# Altium footprint library Tigershark 3D R1.8.PcbLib: 47 footprints (part 2 of 3)
Each footprint in its own frame and in the unit in brackets; x right, y up, seen from the top. Pads: shape width x height; smd on the part's side, far side on the other; paste and mask are expansions set on the pad; w line width, h text height; cw(c..) or ccw(c..) is an arc to the next point about the centre after c.
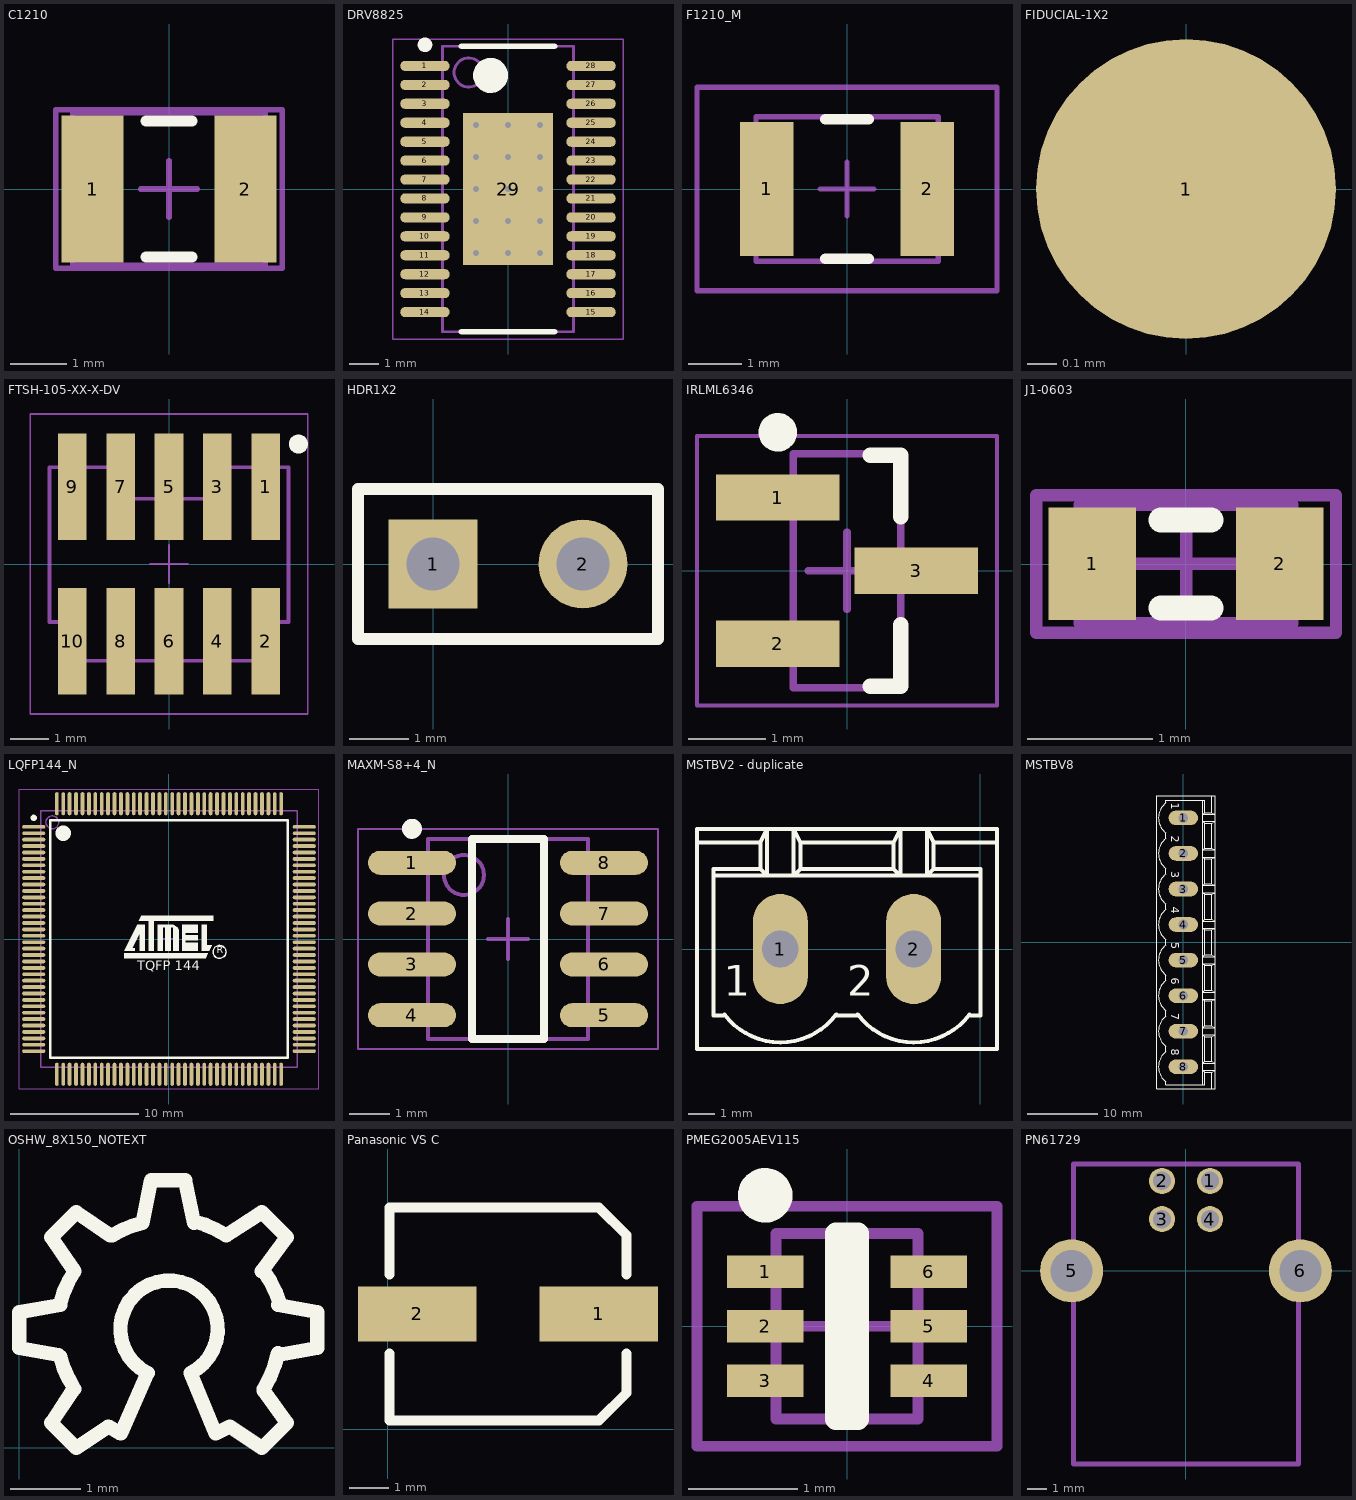
[diagram p1: the footprints below, top view; thin cyan lines are the x and y axes]

## C1210 [mm]
pads (2):
  rect 1.1x2.6 smd: 1(-1.35,0) 2(1.35,0)
Top Overlay:
  lines w0.2: -0.4,-1.2 0.4,-1.2 ; -0.4,1.2 0.4,1.2
Mechanical 13:
  lines w0.1: -1.7,-1.35 1.7,-1.35 1.7,1.35 -1.7,1.35 -1.7,-1.35
Mechanical 15:
  lines w0.1: -0.5,0 0.5,0 ; 0,-0.5 0,0.5 ; -2,-1.4 2,-1.4 2,1.4 -2,1.4 -2,-1.4
3D body: height 1.3, standoff 0, extent -1.7,-1.35 1.7,1.35

## DRV8825 [mm]
pads (29):
  oval 1.7x0.35 smd: 1(-2.85,4.225) 2(-2.85,3.575) 3(-2.85,2.925) 4(-2.85,2.275) 5(-2.85,1.625) 6(-2.85,0.975) 7(-2.85,0.325) 8(-2.85,-0.325) 9(-2.85,-0.975) 10(-2.85,-1.625) 11(-2.85,-2.275) 12(-2.85,-2.925) 13(-2.85,-3.575) 14(-2.85,-4.225) 15(2.85,-4.225) 16(2.85,-3.575) 17(2.85,-2.925) 18(2.85,-2.275) 19(2.85,-1.625) 20(2.85,-0.975) 21(2.85,-0.325) 22(2.85,0.325) 23(2.85,0.975) 24(2.85,1.625) 25(2.85,2.275) 26(2.85,2.925) 27(2.85,3.575) 28(2.85,4.225)
  rect 3.1x5.22 smd: 29(0,0)
via -1.1,2.2 diameter 0.5 hole 0.2
via 0,2.2 diameter 0.5 hole 0.2
via 1.1,2.2 diameter 0.5 hole 0.2
via -1.1,1.1 diameter 0.5 hole 0.2
via 0,1.1 diameter 0.5 hole 0.2
via 1.1,1.1 diameter 0.5 hole 0.2
via -1.1,0 diameter 0.5 hole 0.2
via 0,0 diameter 0.5 hole 0.2
via 1.1,0 diameter 0.5 hole 0.2
via -1.1,-1.1 diameter 0.5 hole 0.2
via 0,-1.1 diameter 0.5 hole 0.2
via 1.1,-1.1 diameter 0.5 hole 0.2
via -1.1,-2.2 diameter 0.5 hole 0.2
via 0,-2.2 diameter 0.5 hole 0.2
via 1.1,-2.2 diameter 0.5 hole 0.2
Top Overlay:
  circle w0.25: c-2.85,4.95 r0.125
  circle w0.6: c-0.6,3.9 r0.3
  lines w0.2: -1.6,-4.9 1.6,-4.9 ; -1.6,4.9 1.6,4.9
Mechanical 13:
  circle w0.1: c-1.35,4 r0.5
  lines w0.1: -2.25,-4.9 -2.25,4.9 2.25,4.9 2.25,-4.9 -2.25,-4.9
Mechanical 15:
  lines w0.05: -3.95,-5.15 -3.95,5.15 3.95,5.15 3.95,-5.15 -3.95,-5.15
  lines w0.1: -0.5,0 0.5,0 ; 0,-0.5 0,0.5
3D body: height 1.2, standoff 0.1, extent -2.25,-4.9 2.25,4.9

## F1210_M [mm]
pads (2):
  rect 1x2.5 smd: 1(-1.5,0) 2(1.5,0)
Top Overlay:
  lines w0.2: -0.4,-1.3 0.4,-1.3 ; -0.4,1.3 0.4,1.3
Mechanical 13:
  lines w0.1: -1.7,-1.35 1.7,-1.35 1.7,1.35 -1.7,1.35 -1.7,-1.35
Mechanical 15:
  lines w0.1: -0.5,0 0.5,0 ; 0,-0.5 0,0.5 ; -2.8,-1.9 2.8,-1.9 2.8,1.9 -2.8,1.9 -2.8,-1.9
3D body: height 0.85, standoff 0, extent -1.7,-1.35 1.7,1.4

## FIDUCIAL-1X2 [mil]
pads (1):
  rrect100% 40x40 smd paste-3897.64 mask+20: 1(0,0)
3D body: height 0.79, standoff 0, extent -19.84,-19.96 20.01,19.97
3D body: height 0.39, standoff 0, extent -39.68,-39.91 40.01,39.93

## FTSH-105-XX-X-DV [mm]
pads (10):
  rect 0.75x2.8 smd mask+0: 1(2.54,2.03) 2(2.54,-2.03) 3(1.27,2.03) 4(1.27,-2.03) 5(0,2.03) 6(0,-2.03) 7(-1.27,2.03) 8(-1.27,-2.03) 9(-2.54,2.03) 10(-2.54,-2.03)
Top Overlay:
  circle w0.25: c3.4,3.15 r0.125
Mechanical 12:
  lines w0.001: -3.137,-1.524 -2.54,-1.524 -2.54,-2.54 2.54,-2.54 2.54,-1.524 3.137,-1.524 3.137,2.54 1.079,2.54 1.079,1.714 -1.079,1.714 -1.079,2.54 -3.137,2.54 -3.137,-1.524
Mechanical 13:
  lines w0.1: -3.137,-1.524 -2.54,-1.524 -2.54,-2.54 2.54,-2.54 2.54,-1.524 3.137,-1.524 3.137,2.54 1.079,2.54 1.079,1.714 -1.079,1.714 -1.079,2.54 -3.137,2.54 -3.137,-1.524
Mechanical 15:
  lines w0.05: -0.5,0 0.5,0 ; 0,-0.5 0,0.5 ; -3.645,-3.937 -3.645,3.937 3.645,3.937 3.645,-3.937 -3.645,-3.937

## HDR1X2 [mm]
pads (2):
  rect 1.5x1.5 hole 0.9: 1(0,0)
  round 1.5 hole 0.9: 2(2.54,0)
Top Overlay:
  lines w0.2: -1.27,-1.27 -1.27,1.27 3.81,1.27 3.81,-1.27 -1.27,-1.27

## IRLML6346 [mm]
pads (3):
  rect 1.6x0.6 smd: 1(-0.9,0.95) 2(-0.9,-0.95) 3(0.9,0)
Top Overlay:
  circle w0.25: c-0.9,1.8 r0.125
  lines w0.2: 0.3,-1.5 0.7,-1.5 0.7,-0.7 ; 0.3,1.5 0.7,1.5 0.7,0.7
Mechanical 13:
  lines w0.1: -0.7,-1.52 0.7,-1.52 0.7,1.52 -0.7,1.52 -0.7,-1.52
Mechanical 15:
  lines w0.05: -1.95,-1.75 1.95,-1.75 1.95,1.75 -1.95,1.75 -1.95,-1.75
  lines w0.1: -0.5,0 0.5,0 ; 0,-0.5 0,0.5
3D body: height 1.12, standoff 0.1, extent -0.7,-1.52 0.7,1.52

## J1-0603 [mm]
pads (2):
  rect 0.7x0.9 smd: 1(-0.75,0) 2(0.75,0)
Top Overlay:
  lines w0.2: -0.2,-0.35 0.2,-0.35 ; -0.2,0.35 0.2,0.35
Mechanical 13:
  lines w0.1: -0.85,-0.475 -0.85,0.475 0.85,0.475 0.85,-0.475 -0.85,-0.475
Mechanical 15:
  lines w0.1: -0.475,0 0.475,0 ; 0,-0.475 0,0.475 ; -1.2,-0.55 -1.2,0.55 1.2,0.55 1.2,-0.55 -1.2,-0.55
3D body: height 0.9, standoff 0, extent -0.85,-0.475 0.85,0.475

## LQFP144_N [mm]
pads (144):
  oval 1.8x0.3 smd: 1(-10.55,8.75) 2(-10.55,8.25) 3(-10.55,7.75) 4(-10.55,7.25) 5(-10.55,6.75) 6(-10.55,6.25) 7(-10.55,5.75) 8(-10.55,5.25) 9(-10.55,4.75) 10(-10.55,4.25) 11(-10.55,3.75) 12(-10.55,3.25) 13(-10.55,2.75) 14(-10.55,2.25) 15(-10.55,1.75) 16(-10.55,1.25) 17(-10.55,0.75) 18(-10.55,0.25) 19(-10.55,-0.25) 20(-10.55,-0.75) 21(-10.55,-1.25) 22(-10.55,-1.75) 23(-10.55,-2.25) 24(-10.55,-2.75) 25(-10.55,-3.25) 26(-10.55,-3.75) 27(-10.55,-4.25) 28(-10.55,-4.75) 29(-10.55,-5.25) 30(-10.55,-5.75) 31(-10.55,-6.25) 32(-10.55,-6.75) 33(-10.55,-7.25) 34(-10.55,-7.75) 35(-10.55,-8.25) 36(-10.55,-8.75) 73(10.55,-8.75) 74(10.55,-8.25) 75(10.55,-7.75) 76(10.55,-7.25) 77(10.55,-6.75) 78(10.55,-6.25) 79(10.55,-5.75) 80(10.55,-5.25) 81(10.55,-4.75) 82(10.55,-4.25) 83(10.55,-3.75) 84(10.55,-3.25) 85(10.55,-2.75) 86(10.55,-2.25) 87(10.55,-1.75) 88(10.55,-1.25) 89(10.55,-0.75) 90(10.55,-0.25) 91(10.55,0.25) 92(10.55,0.75) 93(10.55,1.25) 94(10.55,1.75) 95(10.55,2.25) 96(10.55,2.75) 97(10.55,3.25) 98(10.55,3.75) 99(10.55,4.25) 100(10.55,4.75) 101(10.55,5.25) 102(10.55,5.75) 103(10.55,6.25) 104(10.55,6.75) 105(10.55,7.25) 106(10.55,7.75) 107(10.55,8.25) 108(10.55,8.75)
  oval 0.3x1.8 smd: 37(-8.75,-10.55) 38(-8.25,-10.55) 39(-7.75,-10.55) 40(-7.25,-10.55) 41(-6.75,-10.55) 42(-6.25,-10.55) 43(-5.75,-10.55) 44(-5.25,-10.55) 45(-4.75,-10.55) 46(-4.25,-10.55) 47(-3.75,-10.55) 48(-3.25,-10.55) 49(-2.75,-10.55) 50(-2.25,-10.55) 51(-1.75,-10.55) 52(-1.25,-10.55) 53(-0.75,-10.55) 54(-0.25,-10.55) 55(0.25,-10.55) 56(0.75,-10.55) 57(1.25,-10.55) 58(1.75,-10.55) 59(2.25,-10.55) 60(2.75,-10.55) 61(3.25,-10.55) 62(3.75,-10.55) 63(4.25,-10.55) 64(4.75,-10.55) 65(5.25,-10.55) 66(5.75,-10.55) 67(6.25,-10.55) 68(6.75,-10.55) 69(7.25,-10.55) 70(7.75,-10.55) 71(8.25,-10.55) 72(8.75,-10.55) 109(8.75,10.55) 110(8.25,10.55) 111(7.75,10.55) 112(7.25,10.55) 113(6.75,10.55) 114(6.25,10.55) 115(5.75,10.55) 116(5.25,10.55) 117(4.75,10.55) 118(4.25,10.55) 119(3.75,10.55) 120(3.25,10.55) 121(2.75,10.55) 122(2.25,10.55) 123(1.75,10.55) 124(1.25,10.55) 125(0.75,10.55) 126(0.25,10.55) 127(-0.25,10.55) 128(-0.75,10.55) 129(-1.25,10.55) 130(-1.75,10.55) 131(-2.25,10.55) 132(-2.75,10.55) 133(-3.25,10.55) 134(-3.75,10.55) 135(-4.25,10.55) 136(-4.75,10.55) 137(-5.25,10.55) 138(-5.75,10.55) 139(-6.25,10.55) 140(-6.75,10.55) 141(-7.25,10.55) 142(-7.75,10.55) 143(-8.25,10.55) 144(-8.75,10.55)
Top Overlay:
  circle w0.102: c3.944,-1.006 r0.508
  circle w0.25: c-10.55,9.45 r0.125
  circle w0.6: c-8.25,8.25 r0.3
  region: -3.473,-0.907 -2.473,1.11 -1.873,1.11 -1.873,-0.907 -2.273,-0.907 -2.273,0.5 -2.873,-0.706 -2.673,-0.706 -2.673,-0.907
  region: -2.373,1.415 -2.173,1.796 3.436,1.796 3.436,1.415 -1.173,1.415 -1.173,-0.907 -1.573,-0.907 -1.573,1.415
  region: -0.873,1.11 -0.873,-0.907 -0.473,-0.907 -0.473,0.907 -0.273,0.907 -0.273,-0.907 0.127,-0.907 0.127,0.907 0.327,0.907 0.327,-0.907 0.744,-0.907 0.744,0.703 0.642,0.907 0.54,1.008 0.327,1.11
  region: 1.048,1.11 1.048,-0.907 2.242,-0.907 2.242,-0.307 1.252,-0.307 1.252,-0.084 2.242,-0.084 2.242,0.297 1.252,0.297 1.252,0.5 2.242,0.5 2.242,1.11
  region: 2.547,1.11 2.547,-0.907 3.131,-0.907 3.334,-0.506 2.928,-0.506 2.928,1.11
  region: -3.473,-1.106 -3.473,-1.506 2.852,-1.506 3.03,-1.106
  lines w0.2: -9.25,-9.25 -9.25,9.25 9.25,9.25 9.25,-9.25 -9.25,-9.25
  text "TQFP 144" at -2.473,-2.717 h1.26
  text "R" at 3.741,-1.307 h0.94
Mechanical 13:
  circle w0.1: c-9.1,9.1 r0.5
  lines w0.1: -10,-10 -10,10 10,10 10,-10 -10,-10
Mechanical 15:
  lines w0.05: -11.7,-11.7 -11.7,11.7 11.7,11.7 11.7,-11.7 -11.7,-11.7
  lines w0.1: -0.5,0 0.5,0 ; 0,-0.5 0,0.5
3D body: height 1.6, standoff 0, extent -10,-10 10,10

## MAXM-S8+4_N [mm]
pads (8):
  oval 2.2x0.6 smd: 1(-2.4,1.905) 2(-2.4,0.635) 3(-2.4,-0.635) 4(-2.4,-1.905) 5(2.4,-1.905) 6(2.4,-0.635) 7(2.4,0.635) 8(2.4,1.905)
Top Overlay:
  circle w0.25: c-2.4,2.755 r0.125
  lines w0.2: -0.9,-2.5 0.9,-2.5 0.9,2.5 -0.9,2.5 -0.9,-2.5
Mechanical 13:
  circle w0.1: c-1.1,1.6 r0.5
  lines w0.1: -2,-2.5 2,-2.5 2,2.5 -2,2.5 -2,-2.5
Mechanical 15:
  lines w0.05: -3.75,-2.75 3.75,-2.75 3.75,2.75 -3.75,2.75 -3.75,-2.75
  lines w0.1: -0.5,0 0.5,0 ; 0,-0.5 0,0.5
3D body: height 1.75, standoff 0.1, extent -2,-2.5 2,2.5

## MSTBV2 - duplicate [mil]
pads (2):
  oval 82.5x165 hole 55: 1(-300,0) 2(-100,0)
Top Overlay:
  lines w6: -384,-98 ccw(c-300,-35) -300,-140 ccw(c-300,-35) -216,-98 ; -383,-100 -400,-100 -400,110 ; -215,-100 -185,-100 ; -184,-98 ccw(c-100,-35) -100,-140 ccw(c-100,-35) -16,-98 ; -17,-100 0,-100 0,110 ; -425,160 -425,180 -320,180 ; -425,160 -425,-150 25,-150 25,160 ; -425,160 -330,160 ; -400,110 -400,120 -330,120 ; -400,110 -320,110 ; -330,120 -330,160 ; -330,120 -320,110 ; -330,160 -320,180 ; -320,110 -280,110 ; -320,110 -320,180 ; -320,180 -280,180 ; -280,110 -120,110 ; -280,110 -280,180 ; -280,110 -270,120 ; -280,180 -120,180 ; -280,180 -270,160 ; -270,120 -130,120 ; -270,120 -270,160 ; -270,160 -130,160 ; -130,120 -130,160 ; -130,120 -120,110 ; -130,160 -120,180 ; -120,110 -80,110 ; -120,110 -120,180 ; -120,180 -80,180 ; -80,110 -70,120 ; -80,110 0,110 ; -80,110 -80,180 ; -80,110 -70,120 ; -80,180 -70,160 ; -80,180 25,180 25,160 ; -80,180 -70,160 ; -70,120 -70,160 ; -70,120 0,120 0,110 ; -70,160 25,160
  text "1" at -385,-85 h77.5
  text "2" at -200,-85 h77.5
Mechanical 16:
  lines w6: -325,-25 -325,25 ; -325,-25 -275,-25 ; -325,-25 -275,25 ; -325,25 -275,25 ; -325,25 -275,-25 ; -275,-25 -275,25 ; -125,-25 -75,-25 ; -125,-25 -125,25 ; -125,-25 -75,25 ; -125,25 -75,25 ; -125,25 -75,-25 ; -75,-25 -75,25 ; -75,-25 -75,25
3D body: height 472.44, standoff 0, extent -425,-150 25,180

## MSTBV8 [mil]
pads (8):
  oval 165x82.5 hole 55: 1(0,700) 2(0,500) 3(0,300) 4(0,100) 5(0,-100) 6(0,-300) 7(0,-500) 8(0,-700)
Top Overlay:
  drawing of 151 lines, arcs and shapes, not listed
  text "8" at -85,-600 h77.5
  text "7" at -85,-400 h77.5
  text "6" at -85,-200 h77.5
  text "5" at -85,0 h77.5
  text "1" at -85,785 h77.5
  text "2" at -85,600 h77.5
  text "3" at -85,400 h77.5
  text "4" at -85,200 h77.5
Mechanical 16:
  lines w6: -25,-725 -25,-675 ; -25,-725 25,-675 ; -25,-725 25,-725 ; -25,-675 25,-725 ; -25,-675 25,-675 ; -25,-525 -25,-475 ; -25,-525 25,-475 ; -25,-525 25,-525 ; -25,-475 25,-525 ; -25,-475 25,-475 ; -25,-325 25,-275 ; -25,-325 25,-325 ; -25,-325 -25,-275 ; -25,-275 25,-325 ; -25,-275 25,-275 ; -25,-125 25,-75 ; -25,-125 25,-125 ; -25,-125 -25,-75 ; -25,-75 25,-125 ; -25,-75 25,-75 ; -25,75 25,75 ; -25,75 25,125 ; -25,75 -25,125 ; -25,125 25,125 ; -25,125 25,75 ; -25,275 -25,325 ; -25,275 25,275 ; -25,275 25,325 ; -25,325 25,325 ; -25,325 25,275 ; -25,475 -25,525 ; -25,475 25,475 ; -25,475 25,525 ; -25,525 25,525 ; -25,525 25,475 ; -25,675 -25,725 ; -25,675 25,675 ; -25,675 25,725 ; -25,725 25,725 ; -25,725 25,675 ; 25,-725 25,-675 ; 25,-525 25,-475 ; 25,-325 25,-275 ; 25,-125 25,-75 ; 25,75 25,125 ; 25,275 25,325 ; 25,475 25,525 ; 25,675 25,725
3D body: height 472.44, standoff 0, extent -150,-825 180,825

## OSHW_8X150_NOTEXT [mm]
Top Overlay:
  lines w0.203: 0.559,1.321 0,1.422 0,1.93 0.584,2.032 ; 0.584,1.295 ccw(c2.098,1.695) 0.787,0.838 ; 0.584,2.057 cw(c2.071,1.67) 0.787,2.515 0.457,2.997 0.813,3.353 1.295,3.023 ; 0.762,0.813 0.457,0.356 0.813,0 1.27,0.305 1.448,0.203 1.829,1.067 cw(c2.134,1.689) 2.438,1.067 2.794,0.203 2.997,0.305 3.454,0 3.81,0.356 3.48,0.813 ; 1.321,3.023 cw(c2.114,1.71) 1.753,3.2 1.88,3.81 2.362,3.81 2.489,3.2 ; 2.489,3.226 cw(c2.069,1.663) 2.946,3.023 3.454,3.353 3.81,2.997 3.454,2.515 ; 3.48,0.838 ccw(c2.12,1.677) 3.683,1.346 ; 3.48,2.515 cw(c2.282,1.63) 3.708,2.057 ; 3.683,1.321 4.242,1.422 4.242,1.93 3.683,2.032
Mechanical 8:
  drawing of 191 lines, arcs and shapes, not listed
3D body: height 0, standoff 0, extent -0.002,0.051 4.267,3.759

## Panasonic VS C [mm]
pads (2):
  rect 3x1.4 smd: 1(5.348,2.921) 2(0.748,2.921)
Top Overlay:
  lines w0.254: 0.048,1.921 0.048,0.221 5.348,0.221 6.048,0.921 6.048,1.921 ; 0.048,3.921 0.048,5.621 5.348,5.621 6.048,4.921 6.048,3.921
3D body: height 5.41, standoff 0, extent 0.098,0.288 5.998,5.588

## PMEG2005AEV115 [mm]
pads (6):
  rect 0.7x0.3 smd: 1(-0.75,0.5) 2(-0.75,0) 3(-0.75,-0.5) 4(0.75,-0.5) 5(0.75,0) 6(0.75,0.5)
Top Overlay:
  circle w0.25: c-0.75,1.2 r0.125
  lines w0.2: -0.1,-0.85 -0.1,0.85 0.1,0.85 0.1,-0.85 -0.1,-0.85
Mechanical 13:
  lines w0.1: -0.65,-0.85 0.65,-0.85 0.65,0.85 -0.65,0.85 -0.65,-0.85
Mechanical 15:
  lines w0.1: -0.5,0 0.5,0 ; 0,-0.5 0,0.5 ; -1.375,-1.1 1.375,-1.1 1.375,1.1 -1.375,1.1 -1.375,-1.1
3D body: height 0.6, standoff 0.5, extent -0.65,-0.85 0.65,0.85

## PN61729 [mil]
pads (6):
  round 54 hole 38: 1(50,186) 2(-49.21,186) 3(-49.21,107) 4(50,107)
  round 130.5 hole 87: 5(-236.22,0) 6(237,0)
Mechanical 8:
  lines w10: -232.28,-399.61 233,-399.61 233,221 -232.28,221 -232.28,-399.61
3D body: height 405.51, standoff 27.56, extent -237.28,-404.61 238,226